# Altium schematic symbol library M20-7910442R.SchLib: 1 symbol
Pins are listed as number, name and electrical type; pins without a type are passive.

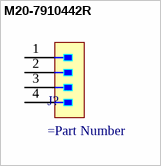
[diagram p0: symbol M20-7910442R]

## M20-7910442R
designator J?
=Description
pins: 1, 2, 3, 4